# EAGLE library part ST-MICROELECTRONICS_TDA2822 (library mainboardv1.2)
OP AMP
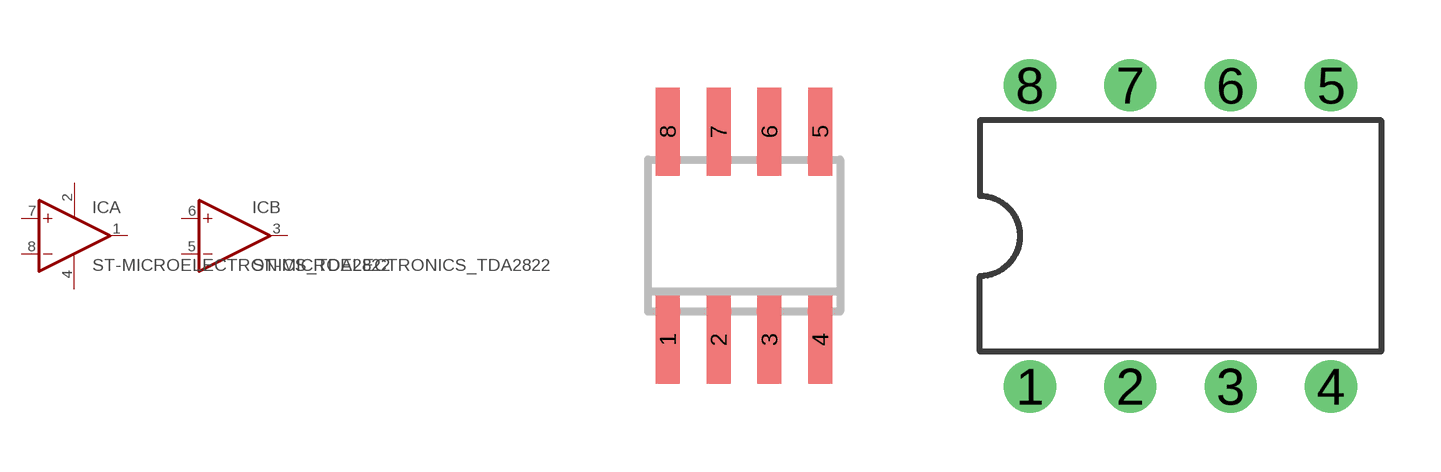
[diagram p8: symbol with the pads of ST-MICROELECTRONICS_SO08; footprints ST-MICROELECTRONICS_SO08, ST-MICROELECTRONICS_DIL08]

Designator prefix IC; gates A=ST-MICROELECTRONICS_OPAMP B=ST-MICROELECTRONICS_OPAMP P=ST-MICROELECTRONICS_PWR+-

## ST-MICROELECTRONICS_TDA2822D  [ST-MICROELECTRONICS_SO08]
1  A:OUT  out
2  P:V+  pwr
3  B:OUT  out
4  P:V-  pwr
5  B:-IN  in
6  B:+IN  in
7  A:+IN  in
8  A:-IN  in

## ST-MICROELECTRONICS_TDA2822N  [ST-MICROELECTRONICS_DIL08]
Pads as for ST-MICROELECTRONICS_SO08

## Footprint ST-MICROELECTRONICS_SO08 (pad centres in mm)
Small Outline Package 8 NS Package M08A
smd 0.6 x 2.2: 1 -1.905,-2.6; 2 -0.635,-2.6; 3 0.635,-2.6; 4 1.905,-2.6; 5 1.905,2.6; 6 0.635,2.6; 7 -0.635,2.6; 8 -1.905,2.6

## Footprint ST-MICROELECTRONICS_DIL08 (pad centres in mm)
Dual In Line Package
drill 0.813 pad 1.27: 1 -3.81,-3.81; 2 -1.27,-3.81; 3 1.27,-3.81; 4 3.81,-3.81; 5 3.81,3.81; 6 1.27,3.81; 7 -1.27,3.81; 8 -3.81,3.81